# Altium footprint library Nguyen Quang Minh.PcbLib: 2 footprints
Each footprint in its own frame and in the unit in brackets; x right, y up, seen from the top. Pads: shape width x height; smd on the part's side, far side on the other; paste and mask are expansions set on the pad; w line width, h text height; cw(c..) or ccw(c..) is an arc to the next point about the centre after c.
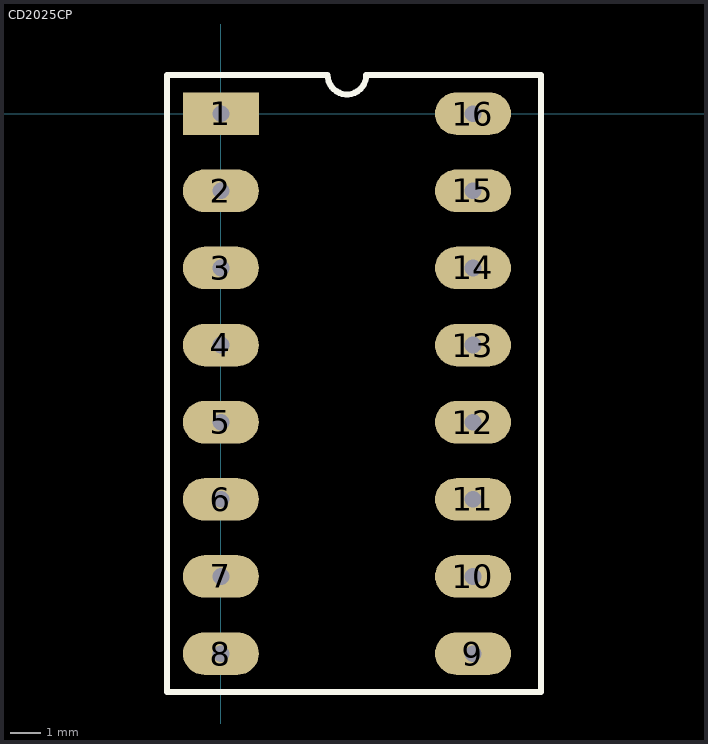
[diagram p0: the footprints below, top view; thin cyan lines are the x and y axes]

## CD2025CP [mm]
pads (16):
  rect 2.5x1.4 hole 0.55: 1(0,0)
  oval 2.5x1.4 hole 0.55: 2(0,-2.54) 3(0,-5.08) 4(0,-7.62) 5(0,-10.16) 6(0,-12.7) 7(0,-15.24) 8(0,-17.78) 9(8.3,-17.78) 10(8.3,-15.24) 11(8.3,-12.7) 12(8.3,-10.16) 13(8.3,-7.62) 14(8.3,-5.08) 15(8.3,-2.54) 16(8.3,0)
Top Overlay:
  lines w0.2: -1.778,-19.05 -1.778,1.27 3.515,1.27 ccw(c4.15,1.27) 4.785,1.27 10.541,1.27 10.541,-19.05 -1.778,-19.05

## PCBComponent_1 [mm]